# EAGLE library part 7_SEGMENT_DISPLAY (library lib)
7 Segment display LB-602MA2, Green LED Displays & Accessories LED #2 DIGIT DISP .6"CAGRNSHORT LEAD
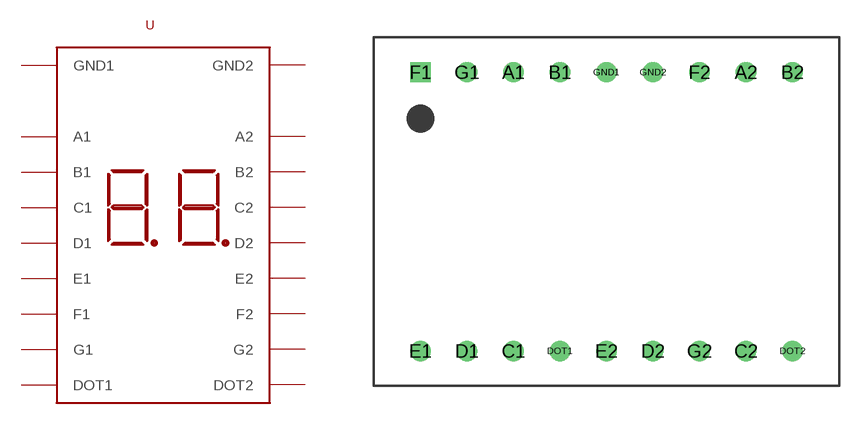
[diagram p6: symbol with the pads of 7_SEGMENT_DISPLAY; footprint 7_SEGMENT_DISPLAY]

Designator prefix U

## 7_SEGMENT_DISPLAY (LINK: https://eu.mouser.com/ProductDetail/ROHM-Semiconductor/LB-602MA2/?qs=hegm%2Fm%252B%2Fz5mYQU7%252BPymz8w%3D%3D; MPN: LB-602MA2; SUPPLIER: Mouser)  [7_SEGMENT_DISPLAY]
A1  A1  in
A2  A2  in
B1  B1  in
B2  B2  in
C1  C1  in
C2  C2  in
D1  D1  in
D2  D2  in
DOT1  DOT1  in
DOT2  DOT2  in
E1  E1  in
E2  E2  in
F1  F1  in
F2  F2  in
G1  G1  in
G2  G2  in
GND1  GND1  out
GND2  GND2  out

## Footprint 7_SEGMENT_DISPLAY (pad centres in mm)
drill 0.6: A1 -5.08,7.62; A2 7.62,7.62; B1 -2.54,7.62; B2 10.16,7.62; C1 -5.08,-7.62; C2 7.62,-7.62; D1 -7.62,-7.62; D2 2.54,-7.62; DOT1 -2.54,-7.62; DOT2 10.16,-7.62; E1 -10.16,-7.62; E2 0,-7.62; F2 5.08,7.62; G1 -7.62,7.62; G2 5.08,-7.62; GND1 0,7.62; GND2 2.54,7.62
drill 0.6 square: F1 -10.16,7.62